# EAGLE library part CONN_8X1_JST_PA (library leaf)
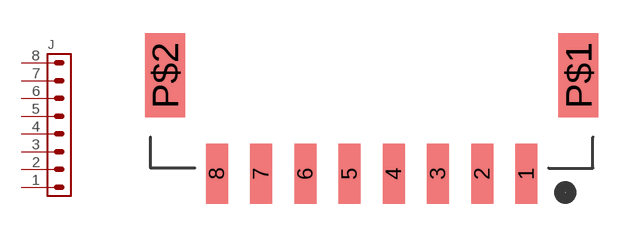
[diagram p11: symbol with the pads of CONN_8X1_JST_PA; footprint CONN_8X1_JST_PA]

Designator prefix J

## CONN_8X1_JST_PA  [CONN_8X1_JST_PA]
1  1
2  2
3  3
4  4
5  5
6  6
7  7
8  8

## Footprint CONN_8X1_JST_PA (pad centres in mm)
smd 1 x 2.7: 1 7,-9.15; 2 5,-9.15; 3 3,-9.15; 4 1,-9.15; 5 -1,-9.15; 6 -3,-9.15; 7 -5,-9.15; 8 -7,-9.15
smd 1.8 x 3.8: P$1 9.35,-4.7; P$2 -9.35,-4.7